# Altium footprint library DIP-SW  0607.PCBlib: 56 footprints (part 4 of 4)
Each footprint in its own frame and in the unit in brackets; x right, y up, seen from the top. Pads: shape width x height; smd on the part's side, far side on the other; paste and mask are expansions set on the pad; w line width, h text height; cw(c..) or ccw(c..) is an arc to the next point about the centre after c.
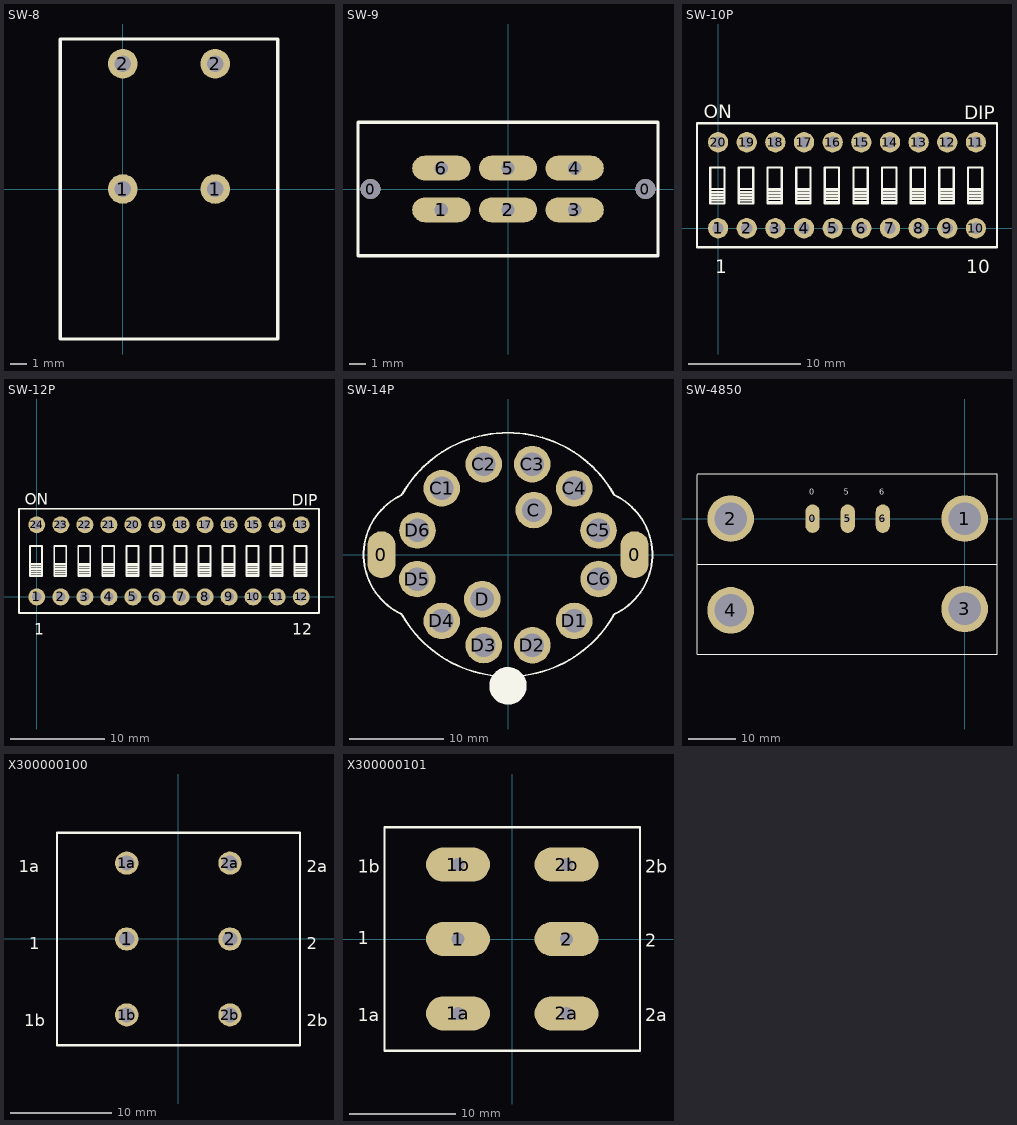
[diagram p3: the footprints below, top view; thin cyan lines are the x and y axes]

## SW-8 [mm]
pads (4):
  round 1.8 hole 1: 1(0,0) 1(5.6,0) 2(0,7.6) 2(5.6,7.6)
Top Overlay:
  lines w0.2: -3.8,-9.1 -3.8,9.1 9.4,9.1 9.4,-9.1 -3.8,-9.1

## SW-9 [mm]
pads (8):
  round 1.2 hole 1.2 unplated: 0(-8.25,0) 0(8.25,0)
  oval 3.5x1.5 hole 0.8: 1(-4,-1.25) 2(0,-1.25) 3(4,-1.25) 4(4,1.25) 5(0,1.25) 6(-4,1.25)
Top Overlay:
  lines w0.2: -9,-4 -9,4 9,4 9,-4 -9,-4
Drill Drawing:
  lines w0.2: -8.85,-0.686 ccw(c-8.25,-0.675) -7.65,-0.686 ; -8.85,-0.675 -8.85,0.725 ; -8.85,0.711 cw(c-8.25,0.7) -7.65,0.711 ; -7.65,-0.7 -7.65,0.7 ; 7.65,-0.686 ccw(c8.25,-0.675) 8.85,-0.686 ; 7.65,-0.675 7.65,0.725 ; 7.65,0.711 cw(c8.25,0.7) 8.85,0.711 ; 8.85,-0.7 8.85,0.7 ; -4.644,-0.852 ccw(c-4.6,-1.25) -4.583,-1.65 -3.356,-1.648 ccw(c-3.4,-1.25) -3.417,-0.85 -4.644,-0.852 ; -4.644,1.648 ccw(c-4.6,1.25) -4.583,0.85 -3.356,0.852 ccw(c-3.4,1.25) -3.417,1.65 -4.644,1.648 ; -0.644,-0.852 ccw(c-0.6,-1.25) -0.583,-1.65 0.644,-1.648 ccw(c0.6,-1.25) 0.583,-0.85 -0.644,-0.852 ; -0.644,1.648 ccw(c-0.6,1.25) -0.583,0.85 0.644,0.852 ccw(c0.6,1.25) 0.583,1.65 -0.644,1.648 ; 3.356,-0.852 ccw(c3.4,-1.25) 3.417,-1.65 4.644,-1.648 ccw(c4.6,-1.25) 4.583,-0.85 3.356,-0.852 ; 3.356,1.648 ccw(c3.4,1.25) 3.417,0.85 4.644,0.852 ccw(c4.6,1.25) 4.583,1.65 3.356,1.648
  text "NPTH" at -11,1.75 h1.2
  text "NPTH" at 6,1.75 h1.2
  text "1.2X2.6" at -11.75,3.5 h1.2
  text "(0.8X2.0)*6" at -4.5,-3.75 h1.2
  text "1.2X2.6" at 5.25,3.5 h1.2

## SW-10P [mm]
pads (20):
  round 1.8 hole 1: 1(0,0) 2(2.54,0) 3(5.08,0) 4(7.62,0) 5(10.16,0) 6(12.7,0) 7(15.24,0) 8(17.78,0) 9(20.32,0) 10(22.86,0) 11(22.86,7.62) 12(20.32,7.62) 13(17.78,7.62) 14(15.24,7.62) 15(12.7,7.62) 16(10.16,7.62) 17(7.62,7.62) 18(5.08,7.62) 19(2.54,7.62) 20(0,7.62)
Top Overlay:
  lines w0.2: -0.7,3.47 0.57,3.47 ; -0.573,2.454 0.443,2.454 ; -0.573,2.708 0.443,2.708 ; -0.573,2.962 0.443,2.962 ; -0.573,3.216 0.443,3.216 ; 1.84,3.47 3.11,3.47 ; 1.967,2.454 2.983,2.454 ; 1.967,2.708 2.983,2.708 ; 1.967,2.962 2.983,2.962 ; 1.967,3.216 2.983,3.216 ; 4.38,3.47 5.65,3.47 ; 4.507,2.327 5.523,2.327 ; 4.507,2.581 5.523,2.581 ; 4.507,2.835 5.523,2.835 ; 4.507,3.089 5.523,3.089 ; 4.507,3.343 5.523,3.343 ; 6.92,3.47 8.19,3.47 ; 7.047,2.327 8.063,2.327 ; 7.047,2.581 8.063,2.581 ; 7.047,2.835 8.063,2.835 ; 7.047,3.089 8.063,3.089 ; 7.047,3.343 8.063,3.343 ; 9.46,3.47 10.73,3.47 ; 9.587,2.327 10.603,2.327 ; 9.587,2.581 10.603,2.581 ; 9.587,2.835 10.603,2.835 ; 9.587,3.089 10.603,3.089 ; 9.587,3.343 10.603,3.343 ; 12,3.47 13.27,3.47 ; 12.127,2.327 13.143,2.327 ; 12.127,2.581 13.143,2.581 ; 12.127,2.835 13.143,2.835 ; 12.127,3.089 13.143,3.089 ; 12.127,3.343 13.143,3.343 ; 14.54,3.47 15.81,3.47 ; 14.667,2.327 15.683,2.327 ; 14.667,2.581 15.683,2.581 ; 14.667,2.835 15.683,2.835 ; 14.667,3.089 15.683,3.089 ; 14.667,3.343 15.683,3.343 ; 17.08,3.47 18.35,3.47 ; 17.207,2.327 18.223,2.327 ; 17.207,2.581 18.223,2.581 ; 17.207,2.835 18.223,2.835 ; 17.207,3.089 18.223,3.089 ; 17.207,3.343 18.223,3.343 ; 19.62,3.47 20.89,3.47 ; 19.747,2.327 20.763,2.327 ; 19.747,2.581 20.763,2.581 ; 19.747,2.835 20.763,2.835 ; 19.747,3.089 20.763,3.089 ; 19.747,3.343 20.763,3.343 ; 22.16,3.47 23.43,3.47 ; 22.287,2.327 23.303,2.327 ; 22.287,2.581 23.303,2.581 ; 22.287,2.835 23.303,2.835 ; 22.287,3.089 23.303,3.089 ; 22.287,3.343 23.303,3.343 ; -1.87,-1.69 24.73,-1.69 24.73,9.31 -1.87,9.31 -1.87,-1.69 ; -0.7,2.2 0.57,2.2 0.57,5.375 -0.7,5.375 -0.7,2.2 ; 1.84,2.2 3.11,2.2 3.11,5.375 1.84,5.375 1.84,2.2 ; 4.38,2.2 5.65,2.2 5.65,5.375 4.38,5.375 4.38,2.2 ; 6.92,2.2 8.19,2.2 8.19,5.375 6.92,5.375 6.92,2.2 ; 9.46,2.2 10.73,2.2 10.73,5.375 9.46,5.375 9.46,2.2 ; 12,2.2 13.27,2.2 13.27,5.375 12,5.375 12,2.2 ; 14.54,2.2 15.81,2.2 15.81,5.375 14.54,5.375 14.54,2.2 ; 17.08,2.2 18.35,2.2 18.35,5.375 17.08,5.375 17.08,2.2 ; 19.62,2.2 20.89,2.2 20.89,5.375 19.62,5.375 19.62,2.2 ; 22.16,2.2 23.43,2.2 23.43,5.375 22.16,5.375 22.16,2.2
  text "ON" at -1.25,9.75 h1.2
  text "DIP" at 21.844,9.652 h1.2
  text "1" at -0.25,-4 h1.2
  text "10" at 22,-4 h1.2
Bottom Overlay:
  lines w0.5: 1.27,-0.8 1.27,0.8 ; 1.27,6.82 1.27,8.42 ; 3.81,-0.8 3.81,0.8 ; 3.81,6.82 3.81,8.42 ; 6.35,-0.8 6.35,0.8 ; 6.35,6.82 6.35,8.42 ; 8.89,-0.8 8.89,0.8 ; 8.89,6.82 8.89,8.42 ; 11.43,-0.8 11.43,0.8 ; 11.43,6.82 11.43,8.42 ; 13.97,-0.8 13.97,0.8 ; 13.97,6.82 13.97,8.42 ; 16.51,-0.8 16.51,0.8 ; 16.51,6.82 16.51,8.42 ; 19.05,-0.8 19.05,0.8 ; 19.05,6.82 19.05,8.42 ; 21.59,-0.8 21.59,0.8 ; 21.59,6.82 21.59,8.42

## SW-12P [mm]
pads (24):
  round 1.8 hole 1: 1(0,0) 2(2.54,0) 3(5.08,0) 4(7.62,0) 5(10.16,0) 6(12.7,0) 7(15.24,0) 8(17.78,0) 9(20.32,0) 10(22.86,0) 11(25.4,0) 12(27.94,0) 13(27.94,7.62) 14(25.4,7.62) 15(22.86,7.62) 16(20.32,7.62) 17(17.78,7.62) 18(15.24,7.62) 19(12.7,7.62) 20(10.16,7.62) 21(7.62,7.62) 22(5.08,7.62) 23(2.54,7.62) 24(0,7.62)
Top Overlay:
  lines w0.2: -0.7,3.47 0.57,3.47 ; -0.573,2.454 0.443,2.454 ; -0.573,2.708 0.443,2.708 ; -0.573,2.962 0.443,2.962 ; -0.573,3.216 0.443,3.216 ; 1.84,3.47 3.11,3.47 ; 1.967,2.454 2.983,2.454 ; 1.967,2.708 2.983,2.708 ; 1.967,2.962 2.983,2.962 ; 1.967,3.216 2.983,3.216 ; 4.38,3.47 5.65,3.47 ; 4.507,2.327 5.523,2.327 ; 4.507,2.581 5.523,2.581 ; 4.507,2.835 5.523,2.835 ; 4.507,3.089 5.523,3.089 ; 4.507,3.343 5.523,3.343 ; 6.92,3.47 8.19,3.47 ; 7.047,2.327 8.063,2.327 ; 7.047,2.581 8.063,2.581 ; 7.047,2.835 8.063,2.835 ; 7.047,3.089 8.063,3.089 ; 7.047,3.343 8.063,3.343 ; 9.46,3.47 10.73,3.47 ; 9.587,2.327 10.603,2.327 ; 9.587,2.581 10.603,2.581 ; 9.587,2.835 10.603,2.835 ; 9.587,3.089 10.603,3.089 ; 9.587,3.343 10.603,3.343 ; 12,3.47 13.27,3.47 ; 12.127,2.327 13.143,2.327 ; 12.127,2.581 13.143,2.581 ; 12.127,2.835 13.143,2.835 ; 12.127,3.089 13.143,3.089 ; 12.127,3.343 13.143,3.343 ; 14.54,3.47 15.81,3.47 ; 14.667,2.327 15.683,2.327 ; 14.667,2.581 15.683,2.581 ; 14.667,2.835 15.683,2.835 ; 14.667,3.089 15.683,3.089 ; 14.667,3.343 15.683,3.343 ; 17.08,3.47 18.35,3.47 ; 17.207,2.327 18.223,2.327 ; 17.207,2.581 18.223,2.581 ; 17.207,2.835 18.223,2.835 ; 17.207,3.089 18.223,3.089 ; 17.207,3.343 18.223,3.343 ; 19.62,3.47 20.89,3.47 ; 19.747,2.327 20.763,2.327 ; 19.747,2.581 20.763,2.581 ; 19.747,2.835 20.763,2.835 ; 19.747,3.089 20.763,3.089 ; 19.747,3.343 20.763,3.343 ; 22.16,3.47 23.43,3.47 ; 22.287,2.327 23.303,2.327 ; 22.287,2.581 23.303,2.581 ; 22.287,2.835 23.303,2.835 ; 22.287,3.089 23.303,3.089 ; 22.287,3.343 23.303,3.343 ; 24.7,3.47 25.97,3.47 ; 24.827,2.327 25.843,2.327 ; 24.827,2.581 25.843,2.581 ; 24.827,2.835 25.843,2.835 ; 24.827,3.089 25.843,3.089 ; 24.827,3.343 25.843,3.343 ; 27.24,3.47 28.51,3.47 ; 27.367,2.327 28.383,2.327 ; 27.367,2.581 28.383,2.581 ; 27.367,2.835 28.383,2.835 ; 27.367,3.089 28.383,3.089 ; 27.367,3.343 28.383,3.343 ; -1.88,-1.69 29.82,-1.69 29.82,9.31 -1.88,9.31 -1.88,-1.69 ; -0.7,2.2 0.57,2.2 0.57,5.375 -0.7,5.375 -0.7,2.2 ; 1.84,2.2 3.11,2.2 3.11,5.375 1.84,5.375 1.84,2.2 ; 4.38,2.2 5.65,2.2 5.65,5.375 4.38,5.375 4.38,2.2 ; 6.92,2.2 8.19,2.2 8.19,5.375 6.92,5.375 6.92,2.2 ; 9.46,2.2 10.73,2.2 10.73,5.375 9.46,5.375 9.46,2.2 ; 12,2.2 13.27,2.2 13.27,5.375 12,5.375 12,2.2 ; 14.54,2.2 15.81,2.2 15.81,5.375 14.54,5.375 14.54,2.2 ; 17.08,2.2 18.35,2.2 18.35,5.375 17.08,5.375 17.08,2.2 ; 19.62,2.2 20.89,2.2 20.89,5.375 19.62,5.375 19.62,2.2 ; 22.16,2.2 23.43,2.2 23.43,5.375 22.16,5.375 22.16,2.2 ; 24.7,2.2 25.97,2.2 25.97,5.375 24.7,5.375 24.7,2.2 ; 27.24,2.2 28.51,2.2 28.51,5.375 27.24,5.375 27.24,2.2
  text "1" at -0.25,-4 h1.2
  text "12" at 27,-4 h1.2
  text "DIP" at 26.924,9.652 h1.2
  text "ON" at -1.25,9.75 h1.2
Bottom Overlay:
  lines w0.5: 1.27,-0.8 1.27,0.8 ; 1.27,6.82 1.27,8.42 ; 3.81,-0.8 3.81,0.8 ; 3.81,6.82 3.81,8.42 ; 6.35,-0.8 6.35,0.8 ; 6.35,6.82 6.35,8.42 ; 8.89,-0.8 8.89,0.8 ; 8.89,6.82 8.89,8.42 ; 11.43,-0.8 11.43,0.8 ; 11.43,6.82 11.43,8.42 ; 13.97,-0.8 13.97,0.8 ; 13.97,6.82 13.97,8.42 ; 16.51,-0.8 16.51,0.8 ; 16.51,6.82 16.51,8.42 ; 19.05,-0.8 19.05,0.8 ; 19.05,6.82 19.05,8.42 ; 21.59,-0.8 21.59,0.8 ; 21.59,6.82 21.59,8.42 ; 24.13,-0.8 24.13,0.8 ; 24.13,6.82 24.13,8.42 ; 26.67,-0.8 26.67,0.8 ; 26.67,6.82 26.67,8.42

## SW-14P [mm]
pads (16):
  oval 3x5 smd: 0(-13.5,0) 0(13.5,0)
  round 3.9 hole 2.5: C(2.75,4.759) C1(-7.071,7.08) C2(-2.581,9.661) C3(2.581,9.661) C4(7.068,7.07) C5(9.652,2.59) C6(9.67,-2.59) D(-2.75,-4.741) D1(7.061,-7.06) D2(2.599,-9.661) D3(-2.581,-9.643) D4(-7.071,-7.062) D5(-9.68,-2.6) D6(-9.652,2.59)
Top Overlay:
  circle w2: c0,-13.991 r1
  lines w0.2: -11.358,-6.391 -11.358,-6.335 cw(c-8.4,0.009) -11.358,6.353 -11.358,6.409 -11.258,6.509 cw(c0,0.009) 11.258,6.509 11.258,6.453 11.358,6.353 cw(c8.4,0.009) 11.358,-6.335 11.258,-6.435 11.258,-6.491 cw(c0,0.009) -11.258,-6.491 -11.358,-6.391

## SW-4850 [mm]
pads (7):
  oval 3x6 hole 1: 0(-32.05,0) 5(-24.65,0) 6(-17.25,0)
  round 9.8 hole 6.8: 1(0,0) 2(-49.3,0) 3(0,-19) 4(-49.3,-19.3)
Top Overlay:
  lines w0.2: -56.4,-9.55 6.8,-9.55 ; -56.4,9.25 -56.4,-28.6 6.8,-28.6 6.8,9.5 -56.4,9.5
  text "0" at -32.75,5 h1.2
  text "5" at -25.5,5 h1.2
  text "6" at -18,5 h1.2
Drill Drawing:
  lines w0.2: -32.55,-1.5 ccw(c-32.05,-1.5) -31.55,-1.5 -31.55,1.525 ccw(c-32.05,1.525) -32.55,1.525 -32.55,-1.5 ; -25.15,-1.5 ccw(c-24.65,-1.5) -24.15,-1.5 -24.15,1.525 ccw(c-24.65,1.525) -25.15,1.525 -25.15,-1.5 ; -17.75,-1.5 ccw(c-17.25,-1.5) -16.75,-1.5 -16.75,1.525 ccw(c-17.25,1.525) -17.75,1.525 -17.75,-1.5
  text "(1.0X4.0)*3" at -28.75,-6 h1.2

## X300000100 [mm]
pads (6):
  round 2.3 hole 1.5: 1(-5.1,0) 1a(-5.1,7.5) 1b(-5.1,-7.5) 2(5.1,0) 2a(5.1,7.5) 2b(5.1,-7.5)
Top Overlay:
  lines w0.2: -12,-10.5 12,-10.5 12,10.5 -12,10.5 -12,-10.5
  text "1" at -14.732,-1.016 h1.2
  text "2" at 12.7,-1.016 h1.2
  text "2a" at 12.7,6.604 h1.2
  text "2b" at 12.7,-8.636 h1.2
  text "1b" at -15.24,-8.636 h1.2
  text "1a" at -15.748,6.604 h1.2

## X300000101 [mm]
pads (6):
  oval 6x3.2 hole 1.2: 1(-5.1,0) 1a(-5.1,-7) 1b(-5.1,7) 2(5.1,0) 2a(5.1,-7) 2b(5.1,7)
Top Overlay:
  lines w0.2: -12,-10.5 -12,10.5 12,10.5 12,-10.5 -12,-10.5
  text "1b" at -14.5,6.25 h1.2
  text "1a" at -14.5,-7.75 h1.2
  text "2a" at 12.5,-7.75 h1.2
  text "2b" at 12.5,6.25 h1.2
  text "2" at 12.5,-0.75 h1.2
  text "1" at -14.5,-0.5 h1.2
Drill Drawing:
  lines w0.2: -6.5,-7.6 cw(c-6.5,-7) -6.5,-6.4 -3.7,-6.4 cw(c-3.7,-7) -3.7,-7.6 -6.5,-7.6 ; -6.5,-0.6 cw(c-6.5,0) -6.5,0.6 -3.7,0.6 cw(c-3.7,0) -3.7,-0.6 -6.5,-0.6 ; -6.5,6.4 cw(c-6.5,7) -6.5,7.6 -3.7,7.6 cw(c-3.7,7) -3.7,6.4 -6.5,6.4 ; 3.7,-7.6 cw(c3.7,-7) 3.7,-6.4 6.5,-6.4 cw(c6.5,-7) 6.5,-7.6 3.7,-7.6 ; 3.7,-0.6 cw(c3.7,0) 3.7,0.6 6.5,0.6 cw(c6.5,0) 6.5,-0.6 3.7,-0.6 ; 3.7,6.4 cw(c3.7,7) 3.7,7.6 6.5,7.6 cw(c6.5,7) 6.5,6.4 3.7,6.4
  text "(1.2x4.0)mm*6" at -5.5,-4.25 h1.2